# Altium footprint library RN2483_breakout_lib.PcbLib: 1 footprints
Each footprint in its own frame and in the unit in brackets; x right, y up, seen from the top. Pads: shape width x height; smd on the part's side, far side on the other; paste and mask are expansions set on the pad; w line width, h text height; cw(c..) or ccw(c..) is an arc to the next point about the centre after c.
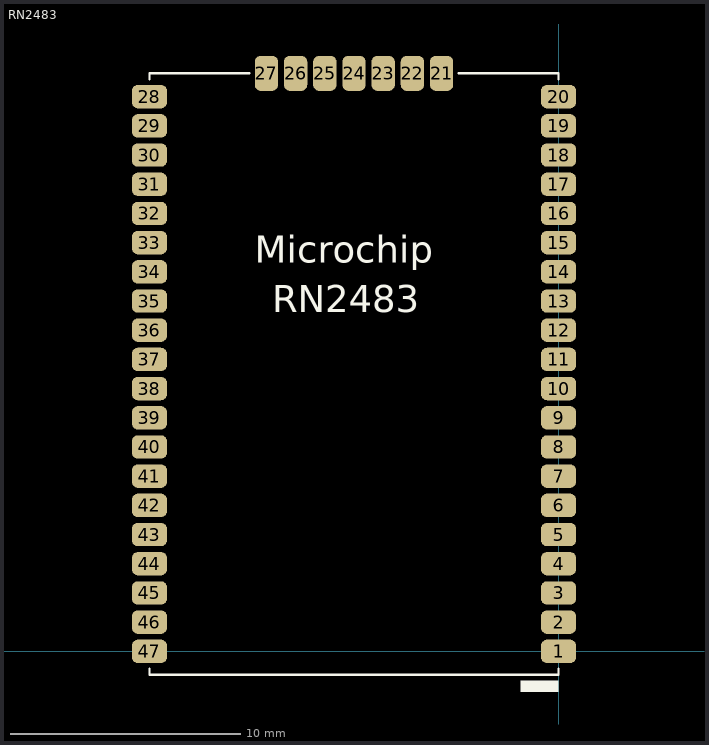
[diagram p0: the footprint, top view; thin cyan lines are the x and y axes]

## RN2483 [mil] "RN2483_MICROCHIP"
pads (47):
  rrect50% 60x40 smd: 1(0,0) 2(0,50) 3(0,100) 4(0,150) 5(0,200) 6(0,250) 7(0,300) 8(0,350) 9(0,400) 10(0,450) 11(0,500) 12(0,550) 13(0,600) 14(0,650) 15(0,700) 16(0,750) 17(0,800) 18(0,850) 19(0,900) 20(0,950) 28(-700.79,950) 29(-700.79,900) 30(-700.79,850) 31(-700.79,800) 32(-700.79,750) 33(-700.79,700) 34(-700.79,650) 35(-700.79,600) 36(-700.79,550) 37(-700.79,500) 38(-700.79,450) 39(-700.79,400) 40(-700.79,350) 41(-700.79,300) 42(-700.79,250) 43(-700.79,200) 44(-700.79,150) 45(-700.79,100) 46(-700.79,50) 47(-700.79,0)
  rrect50% 40x60 smd: 21(-200.39,990) 22(-250.39,990) 23(-300.39,990) 24(-350.39,990) 25(-400.39,990) 26(-450.39,990) 27(-500.39,990)
Top Overlay:
  region: 0,-50 -65,-50 -65,-70 0,-70
  lines w3.94: -700.79,-30 -700.79,-40 0,-40 0,-30 ; -700.79,980 -700.79,990 -530,990 ; -170.79,990 0,990 0,980
  text "RN2483" at -490,565 h78.74
  text "Microchip" at -520,650 h78.74